# EAGLE library part CSD97376Q4M (library SMORSE_Chao)
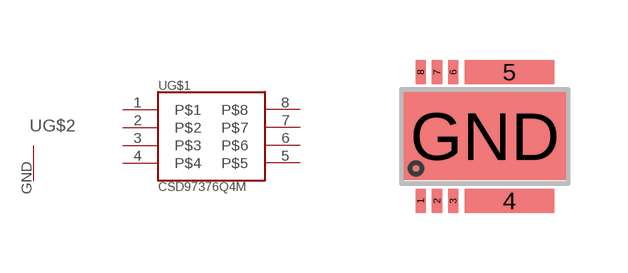
[diagram p4: symbol with the pads of VFDFN8; footprint VFDFN8]

Designator prefix -; gates G$1=IC_8IN G$2=GND

## CSD97376Q4M  [VFDFN8]
1  G$1:P$1
2  G$1:P$2
3  G$1:P$3
4  G$1:P$4
5  G$1:P$5
6  G$1:P$6
7  G$1:P$7
8  G$1:P$8
GND  G$2:GND  pwr

## Footprint VFDFN8 (pad centres in mm)
smd 0.254 x 0.61: 1 -1.587,-1.613; 2 -1.181,-1.613; 3 -0.775,-1.613; 6 -0.775,1.613; 7 -1.181,1.613; 8 -1.587,1.613
smd 2.235 x 0.61: 4 0.635,-1.613; 5 0.635,1.613
smd 4.039 x 2.21: GND 0.015,0.01